# Altium integrated library My_Library.IntLib: 36 symbols
Pins are listed as number, name and electrical type; pins without a type are passive.

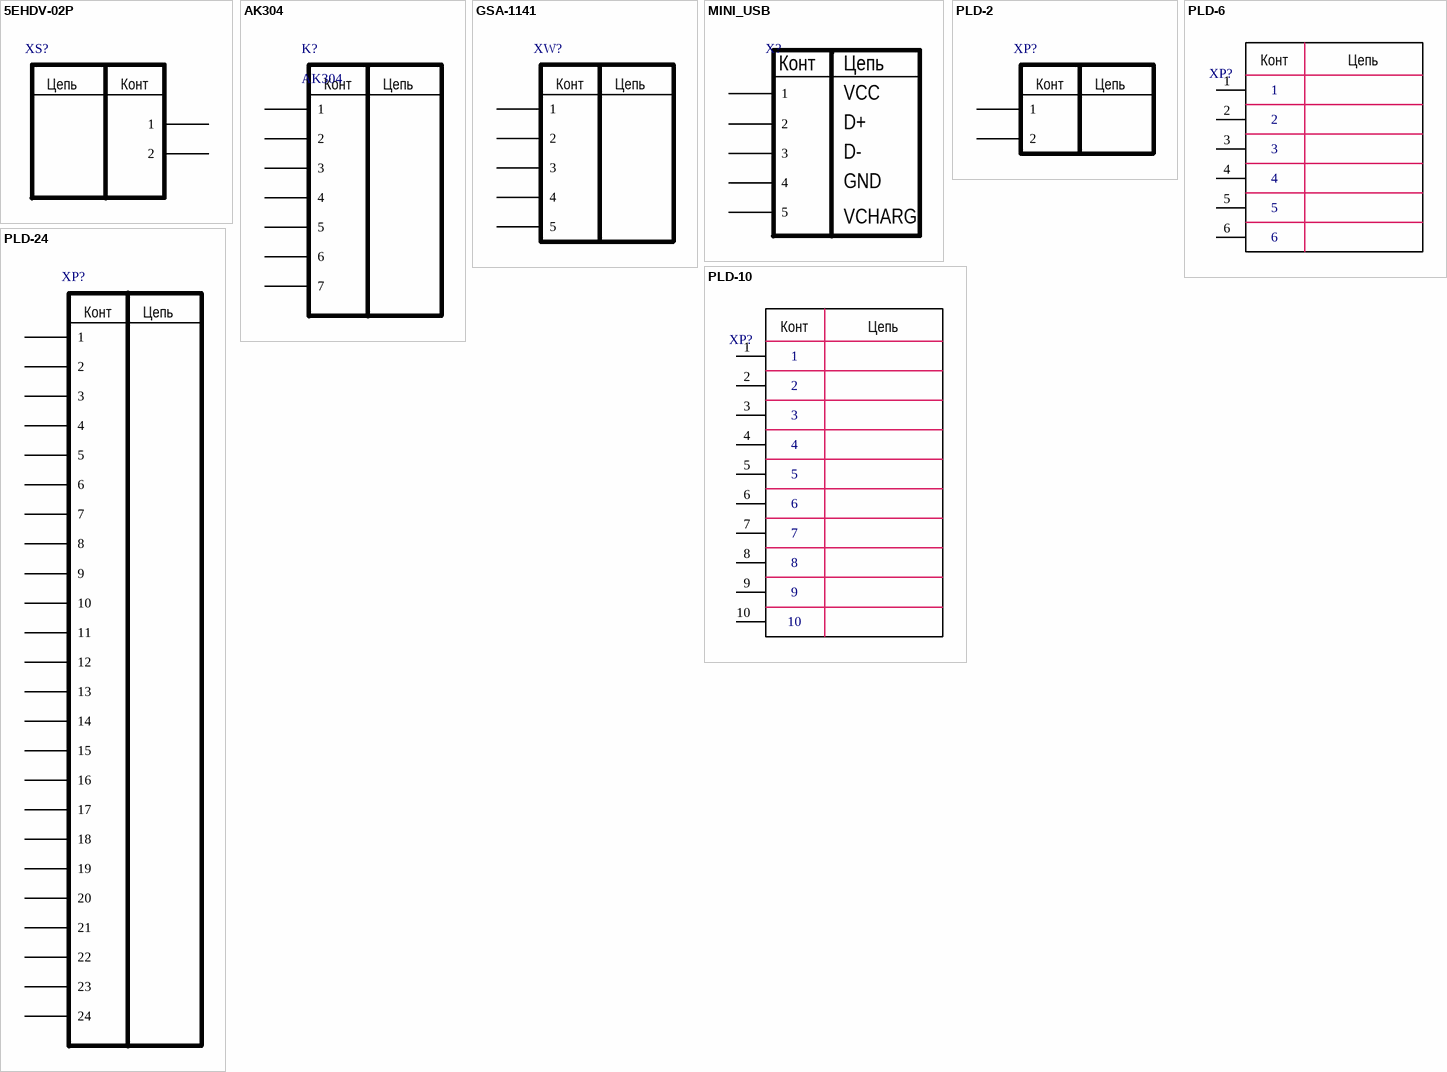
[diagram p0: symbols 5EHDV-02P to PLD-24]

## 5EHDV-02P
designator XS?  (value not drawn)
footprint 5EHDV-02P
pins: 1, 2
text: Цепь; Конт

## AK304
designator K?
footprint AK304
pins: 1, 2, 3, 4, 5, 6, 7
text: Конт; Цепь

## GSA-1141
designator XW?  (value not drawn)
footprint GSA-1141
pins: 1, 2, 3, 4, 5
text: Конт; Цепь

## MINI_USB
designator X?  (value not drawn)
footprint MINI_USB
pins: 1, 2, 3, 4, 5
text: Конт; Цепь; VCC; D+; D-; GND; VCHARG

## PLD-2
designator XP?  (value not drawn)
footprint PLD-2
pins: 1, 2
text: Конт; Цепь

## PLD-6
designator XP?  (value not drawn)
footprint PLD-6
pins: 1, 2, 3, 4, 5, 6
text: Конт; Цепь

## PLD-10
designator XP?  (value not drawn)
footprint PLD-10
pins: 1, 2, 3, 4, 5, 6, 7, 8, 9, 10
text: Конт; Цепь

## PLD-24
designator XP?  (value not drawn)
footprint PLD-24
pins: 1, 2, 3, 4, 5, 6, 7, 8, 9, 10, 11, 12, 13, 14, 15, 16, 17, 18, 19, 20, 21, 22, 23, 24
text: Конт; Цепь


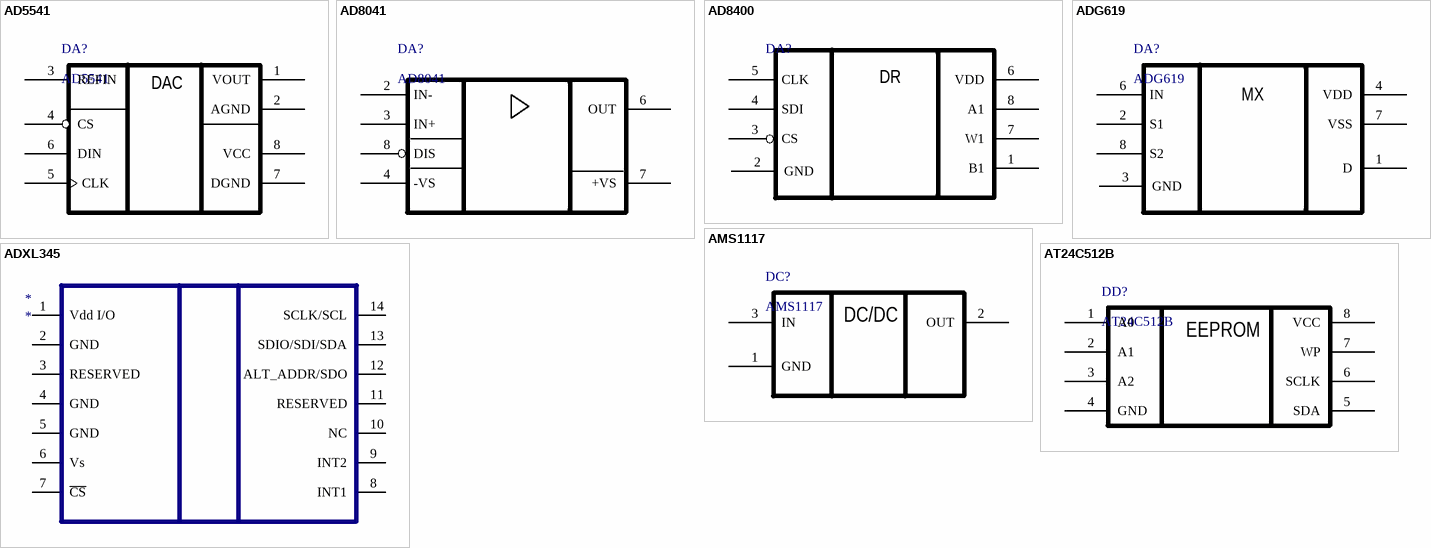
[diagram p1: symbols AD5541 to AT24C512B]

## AD5541
designator DA?
footprint SOIC-8
pins: 1 VOUT, 2 AGND, 3 REFIN, 4 CS, 5 CLK, 6 DIN, 7 DGND, 8 VCC
text: DAC

## AD8041
designator DA?
footprint SOIC-8
pins: 2 IN-, 3 IN+, 4 -VS, 6 OUT, 7 +VS, 8 DIS

## AD8400
designator DA?  (value not drawn)
footprint SOIC-8
pins: 1 B1, 2 GND, 3 CS, 4 SDI, 5 CLK, 6 VDD, 7 W1, 8 A1
text: DR

## ADG619
designator DA?
footprint SOT23-8
pins: 1 D, 2 S1, 3 GND, 4 VDD, 6 IN, 7 VSS, 8 S2
text: MX

## ADXL345
designator *
pins: 1 Vdd I/O, 2 GND, 3 RESERVED, 4 GND, 5 GND, 6 Vs, 7 ~{CS}, 8 INT1, 9 INT2, 10 NC, 11 RESERVED, 12 ALT_ADDR/SDO, 13 SDIO/SDI/SDA, 14 SCLK/SCL

## AMS1117
designator DC?
footprint TO252
pins: 1 GND, 2 OUT, 3 IN
text: DC/DC

## AT24C512B
designator DD?
footprint SOIC-8
pins: 1 A0, 2 A1, 3 A2, 4 GND, 5 SDA, 6 SCLK, 7 WP, 8 VCC
text: EEPROM

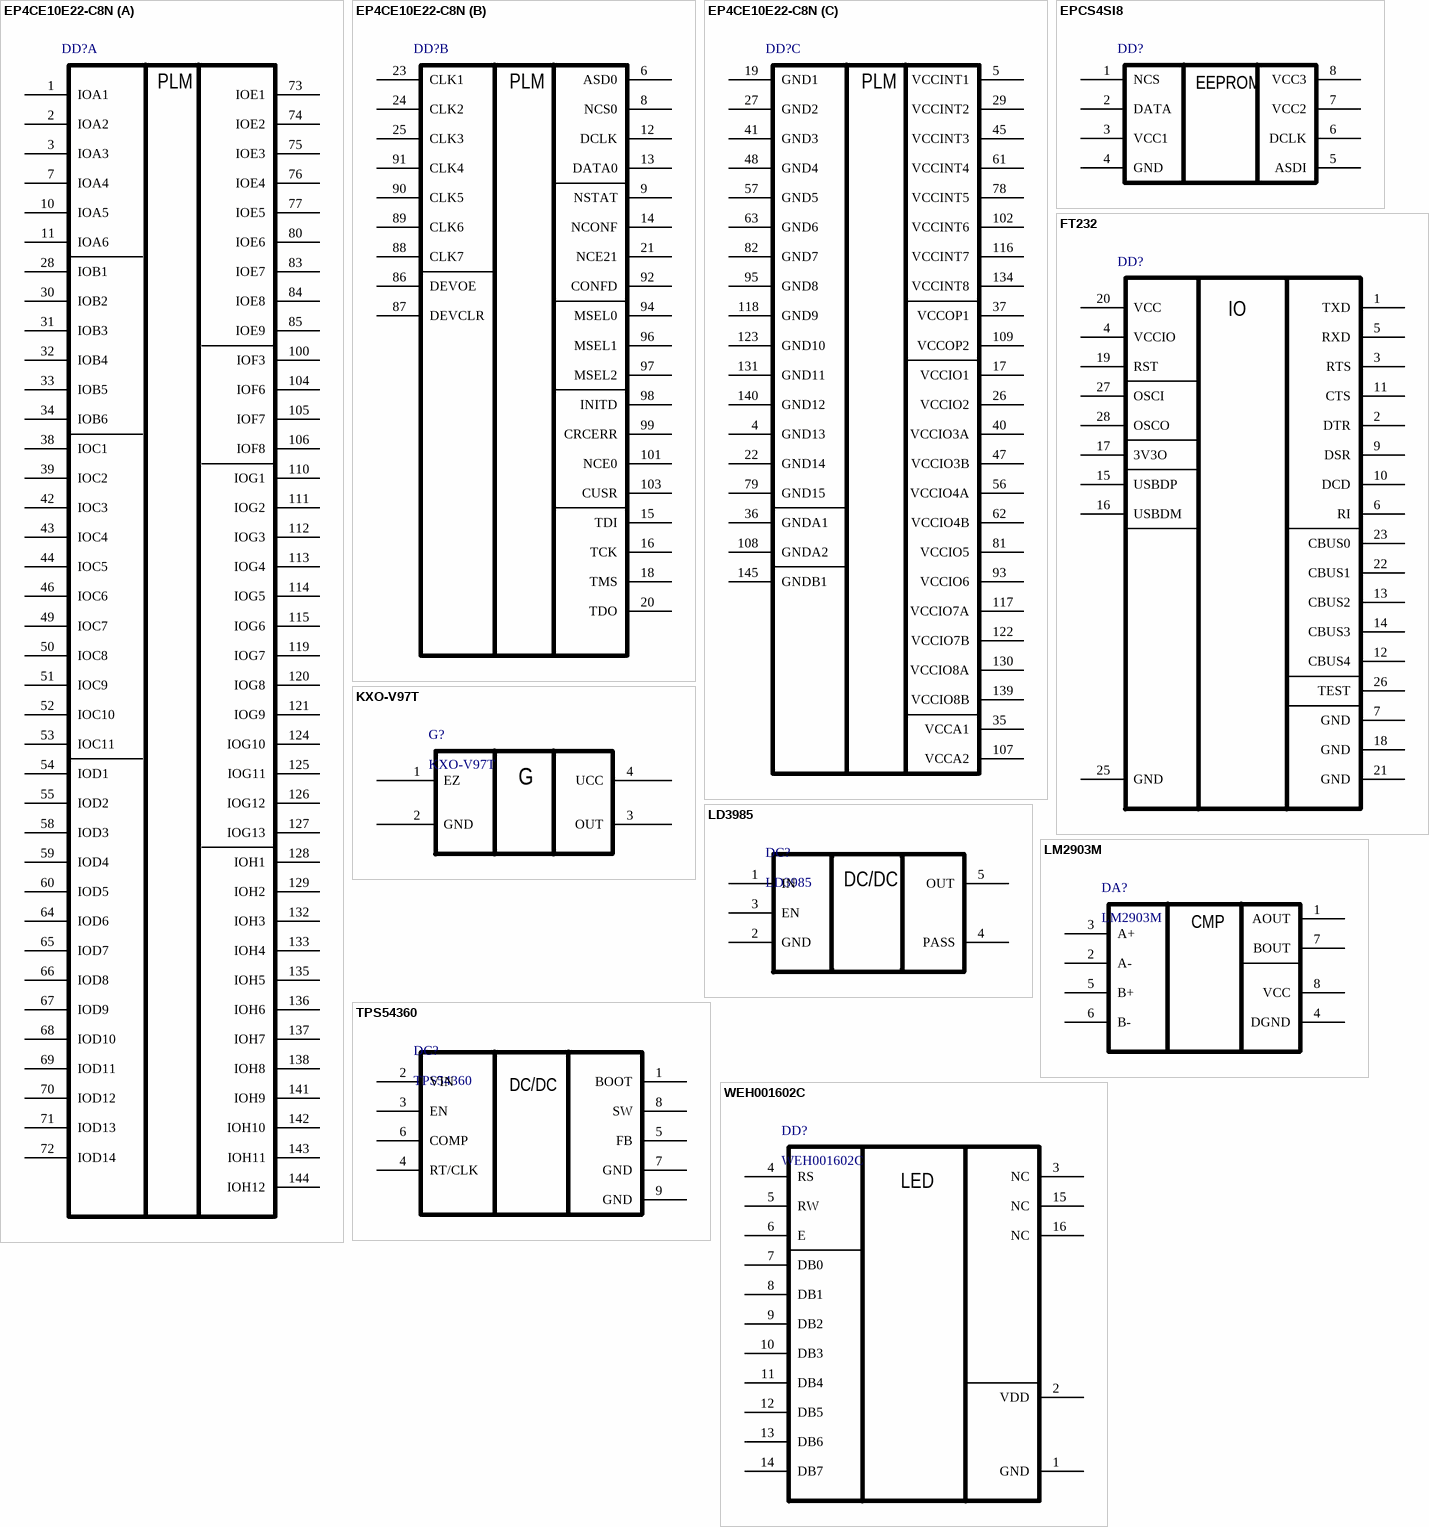
[diagram p2: symbols EP4CE10E22-C8N to WEH001602C]

## EP4CE10E22-C8N
designator DD?  (value not drawn)
footprint EQFP144
part A pins: 1 IOA1, 2 IOA2, 3 IOA3, 7 IOA4, 10 IOA5, 11 IOA6, 28 IOB1, 30 IOB2, 31 IOB3, 32 IOB4, 33 IOB5, 34 IOB6, 38 IOC1, 39 IOC2, 42 IOC3, 43 IOC4, 44 IOC5, 46 IOC6, 49 IOC7, 50 IOC8, 51 IOC9, 52 IOC10, 53 IOC11, 54 IOD1, 55 IOD2, 58 IOD3, 59 IOD4, 60 IOD5, 64 IOD6, 65 IOD7, 66 IOD8, 67 IOD9, 68 IOD10, 69 IOD11, 70 IOD12, 71 IOD13, 72 IOD14, 73 IOE1, 74 IOE2, 75 IOE3, 76 IOE4, 77 IOE5, 80 IOE6, 83 IOE7, 84 IOE8, 85 IOE9, 100 IOF3, 104 IOF6, 105 IOF7, 106 IOF8, 110 IOG1, 111 IOG2, 112 IOG3, 113 IOG4, 114 IOG5, 115 IOG6, 119 IOG7, 120 IOG8, 121 IOG9, 124 IOG10, 125 IOG11, 126 IOG12, 127 IOG13, 128 IOH1, 129 IOH2, 132 IOH3, 133 IOH4, 135 IOH5, 136 IOH6, 137 IOH7, 138 IOH8, 141 IOH9, 142 IOH10, 143 IOH11, 144 IOH12
part B pins: 6 ASD0, 8 NCS0, 9 NSTAT, 12 DCLK, 13 DATA0, 14 NCONF, 15 TDI, 16 TCK, 18 TMS, 20 TDO, 21 NCE21, 23 CLK1, 24 CLK2, 25 CLK3, 86 DEVOE, 87 DEVCLR, 88 CLK7, 89 CLK6, 90 CLK5, 91 CLK4, 92 CONFD, 94 MSEL0, 96 MSEL1, 97 MSEL2, 98 INITD, 99 CRCERR, 101 NCE0, 103 CUSR
part C pins: 4 GND13, 5 VCCINT1, 17 VCCIO1, 19 GND1, 22 GND14, 26 VCCIO2, 27 GND2, 29 VCCINT2, 35 VCCA1, 36 GNDA1, 37 VCCOP1, 40 VCCIO3A, 41 GND3, 45 VCCINT3, 47 VCCIO3B, 48 GND4, 56 VCCIO4A, 57 GND5, 61 VCCINT4, 62 VCCIO4B, 63 GND6, 78 VCCINT5, 79 GND15, 81 VCCIO5, 82 GND7, 93 VCCIO6, 95 GND8, 102 VCCINT6, 107 VCCA2, 108 GNDA2, 109 VCCOP2, 116 VCCINT7, 117 VCCIO7A, 118 GND9, 122 VCCIO7B, 123 GND10, 130 VCCIO8A, 131 GND11, 134 VCCINT8, 139 VCCIO8B, 140 GND12, 145 GNDB1
part A text: PLM
part B text: PLM
part C text: PLM

## EPCS4SI8
designator DD?  (value not drawn)
footprint SOIC-8
pins: 1 NCS, 2 DATA, 3 VCC1, 4 GND, 5 ASDI, 6 DCLK, 7 VCC2, 8 VCC3
text: EEPROM

## FT232
designator DD?  (value not drawn)
footprint SSOP-28
pins: 1 TXD, 2 DTR, 3 RTS, 4 VCCIO, 5 RXD, 6 RI, 7 GND, 9 DSR, 10 DCD, 11 CTS, 12 CBUS4, 13 CBUS2, 14 CBUS3, 15 USBDP, 16 USBDM, 17 3V3O, 18 GND, 19 RST, 20 VCC, 21 GND, 22 CBUS1, 23 CBUS0, 25 GND, 26 TEST, 27 OSCI, 28 OSCO
text: IO

## KXO-V97T
designator G?
footprint KXO-V97T
pins: 1 EZ, 2 GND, 3 OUT, 4 UCC
text: G

## LD3985
designator DC?
footprint SOT23-5 (SOT23, 5-Leads, Body 3,0x2,6mm (max), Pitch 0,95mm, IPC Medium Density)
pins: 1 IN, 2 GND, 3 EN, 4 PASS, 5 OUT
text: DC/DC

## LM2903M
designator DA?
footprint SOIC-8
pins: 1 AOUT, 2 A-, 3 A+, 4 DGND, 5 B+, 6 B-, 7 BOUT, 8 VCC
text: CMP

## TPS54360
designator DC?
footprint HSOP-8
pins: 1 BOOT, 2 VIN, 3 EN, 4 RT/CLK, 5 FB, 6 COMP, 7 GND, 8 SW, 9 GND
text: DC/DC

## WEH001602C
designator DD?
footprint WEH001602C
pins: 1 GND, 2 VDD, 3 NC, 4 RS, 5 RW, 6 E, 7 DB0, 8 DB1, 9 DB2, 10 DB3, 11 DB4, 12 DB5, 13 DB6, 14 DB7, 15 NC, 16 NC
text: LED


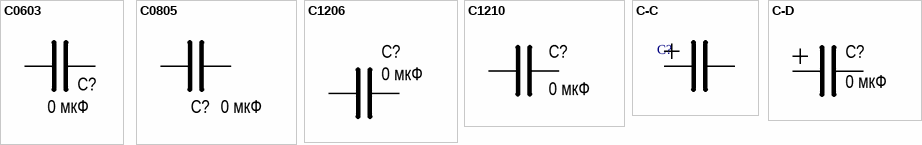
[diagram p3: symbols C0603 to C-D]

## C0603
designator C?, comment 0 мкФ
footprint C0603
pins: 1, 2

## C0805
designator C?, comment 0 мкФ
footprint C0805
pins: 1, 2

## C1206
designator C?, comment 0 мкФ
footprint C1206
pins: 1, 2

## C1210
designator C?, comment 0 мкФ
footprint C1210
pins: 1, 2

## C-C
designator C?, comment 0 мкФ  (value not drawn)
pins: 1, 2

## C-D
designator C?, comment 0 мкФ
footprint C-D
pins: 1, 2


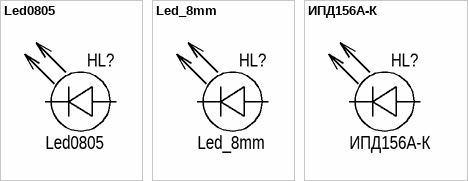
[diagram p4: symbols Led0805 to ИПД156А-К]

## Led0805
designator HL?
footprint ИПД156А-К
footprint LED_8MM
footprint Led0805
pins: 1, 2

## Led_8mm
designator HL?
footprint ИПД156А-К
footprint LED_8MM
pins: 1, 2

## ИПД156А-К
designator HL?
footprint ИПД156А-К
pins: 1, 2


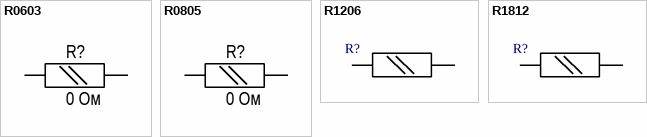
[diagram p5: symbols R0603 to R1812]

## R0603
designator R?, comment 0 Ом
footprint R0605
pins: 1, 2

## R0805
designator R?, comment 0 Ом
footprint R0805 (Chip Resistor, 2-Leads, Body 2,1x1,3mm, IPC Medium Density)
pins: 1, 2

## R1206
designator R?, comment 0 Ом  (value not drawn)
footprint R1206
pins: 1, 2

## R1812
designator R?, comment 0 Ом  (value not drawn)
footprint R1812
pins: 1, 2